# EAGLE library part PANSTAMP (library panstamp)
Panstamp wireless module
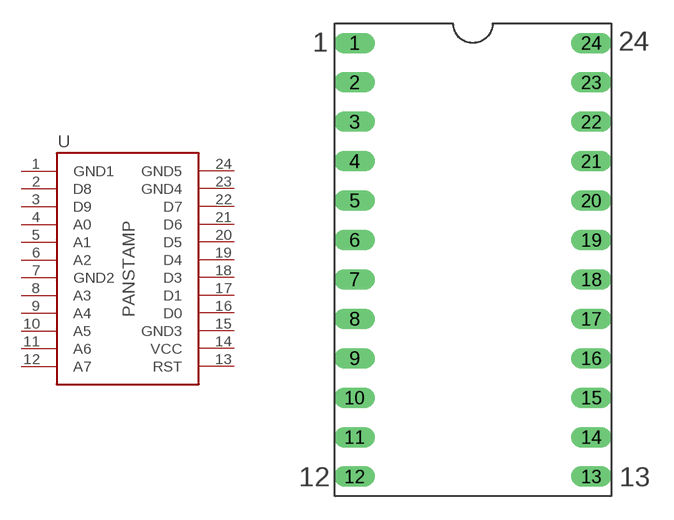
[diagram p0: symbol with the pads of DIL24-6; footprint DIL24-6]

Designator prefix -

## PANSTAMPPANSTAMP  [DIL24-6]
1  GND1  pwr
2  D8
3  D9
4  A0
5  A1
6  A2
7  GND2  pwr
8  A3
9  A4
10  A5
11  A6
12  A7
13  RST  in
14  VCC  pwr
15  GND3  pwr
16  D0
17  D1
18  D3
19  D4
20  D5
21  D6
22  D7
23  GND4  pwr
24  GND5  pwr

## Footprint DIL24-6 (pad centres in mm)
Panstamp wireless module
drill 0.8 long: 1 -7.62,13.97; 2 -7.62,11.43; 3 -7.62,8.89; 4 -7.62,6.35; 5 -7.62,3.81; 6 -7.62,1.27; 7 -7.62,-1.27; 8 -7.62,-3.81; 9 -7.62,-6.35; 10 -7.62,-8.89; 11 -7.62,-11.43; 12 -7.62,-13.97; 13 7.62,-13.97; 14 7.62,-11.43; 15 7.62,-8.89; 16 7.62,-6.35; 17 7.62,-3.81; 18 7.62,-1.27; 19 7.62,1.27; 20 7.62,3.81; 21 7.62,6.35; 22 7.62,8.89; 23 7.62,11.43; 24 7.62,13.97